# Altium schematic symbol library LED_4PIN_GRN2A2C_RED1A1C.SchLib: 1 symbol
Pins are listed as number, name and electrical type; pins without a type are passive.

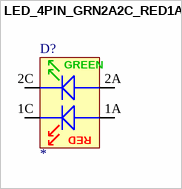
[diagram p0: symbol LED_4PIN_GRN2A2C_RED1A1C]

## LED_4PIN_GRN2A2C_RED1A1C
designator D?
pins: 1A RA, 1C RC, 2A GA, 2C GC
text: GREEN; RED